# Altium footprint library 二极管 - 副本.PcbLib: 8 footprints
Each footprint in its own frame and in the unit in brackets; x right, y up, seen from the top. Pads: shape width x height; smd on the part's side, far side on the other; paste and mask are expansions set on the pad; w line width, h text height; cw(c..) or ccw(c..) is an arc to the next point about the centre after c.
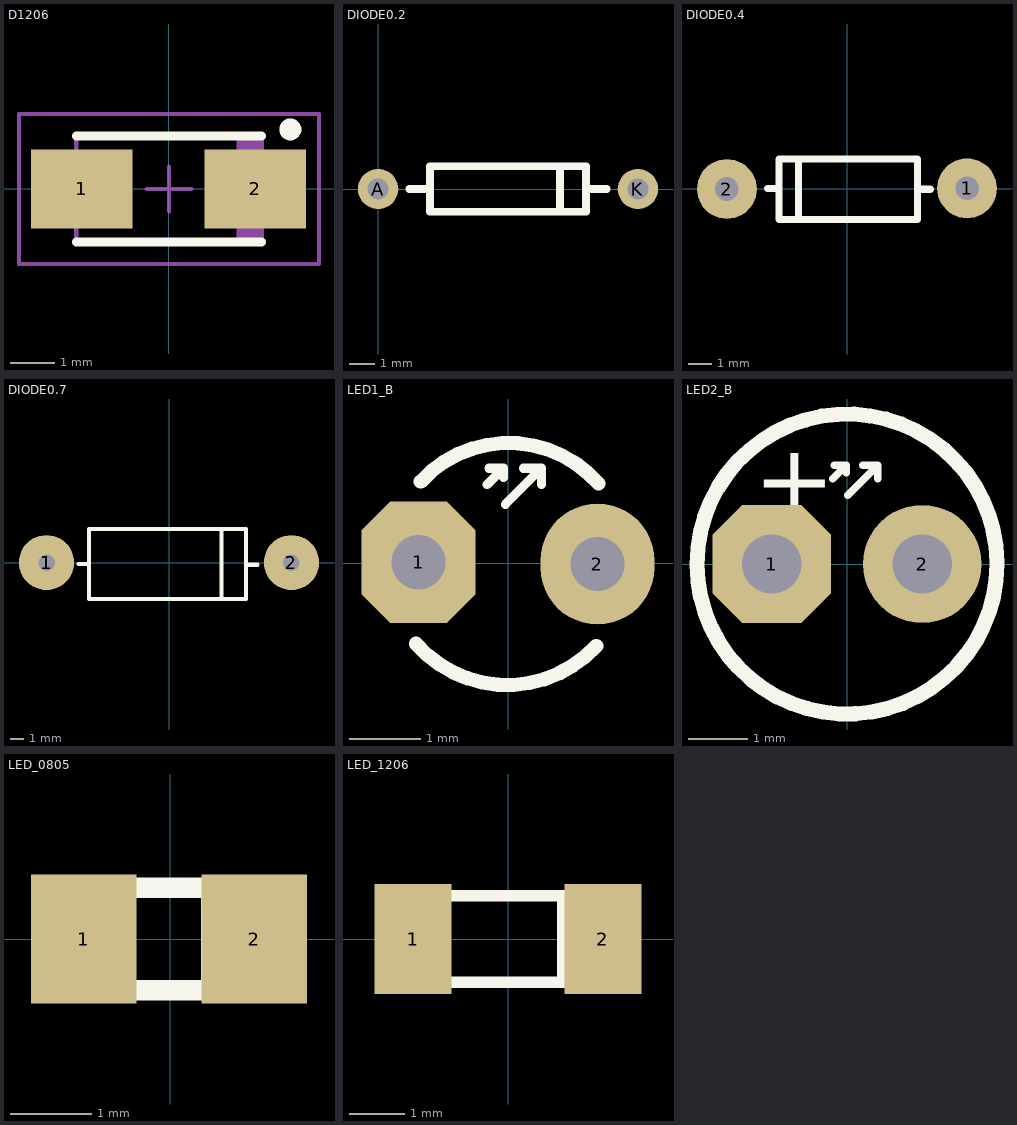
[diagram p0: the footprints below, top view; thin cyan lines are the x and y axes]

## D1206 [mm] "Molded Diode, 2-Leads, Body 5.0x2.7mm, IPC Medium Density"
height 2.438
pads (2):
  rect 2.3x1.8 smd: 1(-1.977,0) 2(1.951,0)
Top Overlay:
  circle w0.25: c2.75,1.35 r0.125
  lines w0.2: -2.1,-1.2 2.1,-1.2 ; -2.1,1.2 2.1,1.2
Mechanical 13:
  rectangle: 1.535,-1.2 2.1,1.2
  lines w0.1: -2.1,-1.2 2.1,-1.2 2.1,1.2 -2.1,1.2 -2.1,-1.2
Mechanical 15:
  lines w0.1: -0.5,0 0.5,0 ; 0,-0.5 0,0.5 ; -3.4,-1.7 3.4,-1.7 3.4,1.7 -3.4,1.7 -3.4,-1.7
3D body: height 2.4, standoff 0, extent -2.3,-1.346 2.3,1.354

## DIODE0.2 [mil]
pads (2):
  round 62 hole 32: A(0,0) K(400,0)
Top Overlay:
  lines w12: 48,0 80,0 ; 280,-35 280,35 ; 320,0 352,0 ; 80,-35 320,-35 320,35 80,35 80,-35
3D body: height 84.5, standoff -100, extent -10.49,-34.5 410.49,34.5

## DIODE0.4 [mil]
pads (2):
  round 100 hole 39.37: 1(200.5,0.5)
  round 100 hole 39.37 unplated: 2(-200.5,-0.5)
Top Overlay:
  lines w12: -132.5,0.5 -113.5,0.5 ; -81,-50.5 -81,49.5 ; 118,-1 139,-1 ; -113.5,-51.5 -113.5,49.5 117.5,49.5 117.5,-51.5 -113.5,-51.5
3D body: height 100.5, standoff -100, extent -215.5,-49.5 214.5,51.5

## DIODE0.7 [mm]
pads (3):
  round 2.4 hole 1: 1(-8.89,0)
  round 4 hole 1.2: 1(-8.89,0) 2(8.89,0)
Top Overlay:
  lines w0.305: -6.579,-0.102 -5.918,-0.102 ; 3.81,-2.642 3.81,2.438 ; 5.588,-0.152 6.426,-0.152 ; -5.817,-2.642 -5.817,2.438 5.588,2.438 5.588,-2.642 -5.817,-2.642
3D body: height 5.97, standoff -1.02, extent -9.144,-2.692 8.89,2.388

## LED1_B [mil] "3mm"
pads (2):
  oct 62.99x66.93 hole 30: 1(-49.5,0.5)
  oval 62.99x66.93 hole 30: 2(49.5,-0.5)
Top Overlay:
  lines w5: -11.5,43.5 -2.5,52.5 ; -10.5,52.5 -2.5,52.5 ; -2.5,47.5 -2.5,52.5 ; -1.5,32.5 18.5,52.5 ; 8.5,52.5 18.5,52.5 ; 18.5,43.5 18.5,52.5
  lines w7.87: -50.84,-44.61 ccw(c-0.5,-0.5) 48.82,-45.75 ; -48.24,45.12 cw(c0.38,0.51) 50,44
3D body: height 214.72, standoff -68.74, extent -78.29,-78.34 60.29,79

## LED2_B [mm] "5mm"
pads (2):
  oct 2x2 hole 1: 1(-1.27,0)
  round 2 hole 1: 2(1.27,0)
Top Overlay:
  lines w0.127: -0.239,1.437 -0.01,1.666 ; -0.214,1.666 -0.01,1.666 ; -0.01,1.539 -0.01,1.666 ; 0.015,1.158 0.523,1.666 ; 0.269,1.666 0.523,1.666 ; 0.523,1.437 0.523,1.666
  lines w0.254: 2.533,0 cw(c0,0) 2.533,0.027
  text "+" at -1.575,0.838 h1.2
3D body: height 8.85, standoff -1.75, extent -2.802,-2.905 2.548,2.794

## LED_0805 [mm]
height 1
pads (2):
  rect 1.3x1.6 smd: 1(-1.067,0) 2(1.041,0)
Top Overlay:
  lines w0.254: 0.508,-0.635 0.508,0.508 ; -0.889,-0.635 -0.889,0.635 0.635,0.635 1.016,0.635 1.016,-0.635 0.635,-0.635 -0.889,-0.635

## LED_1206 [mm]
height 1
pads (2):
  rect 1.4x2 smd: 1(-1.727,0) 2(1.727,0)
Top Overlay:
  lines w0.203: 0.991,-0.787 0.991,0.787 ; -1.676,-0.787 1.524,-0.787 1.524,0.787 -1.676,0.787 -1.676,0 -1.676,-0.787
3D body: height 1.1, standoff 0, extent -1.651,-0.787 1.549,0.813
3D body: height 1.11, standoff 1, extent -0.762,-0.508 0.762,0.635